# Altium schematic symbol library SP3003-02XTG.SchLib: 2 symbols
Pins are listed as number, name and electrical type; pins without a type are passive.

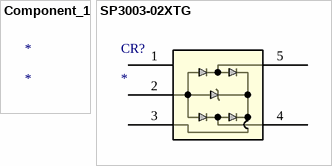
[diagram p0: symbols Component_1 to SP3003-02XTG]

## Component_1
designator *

## SP3003-02XTG
designator CR?
No Description Available; Mfr_Name: Littelfuse Inc; RefDes: RefDes; Type: Type
footprint SOT553_LTF
pins: 1, 2, 3, 4, 5